# Altium footprint library Разъемы-mm.PcbLib: 96 footprints (part 4 of 6)
Each footprint in its own frame and in the unit in brackets; x right, y up, seen from the top. Pads: shape width x height; smd on the part's side, far side on the other; paste and mask are expansions set on the pad; w line width, h text height; cw(c..) or ccw(c..) is an arc to the next point about the centre after c.
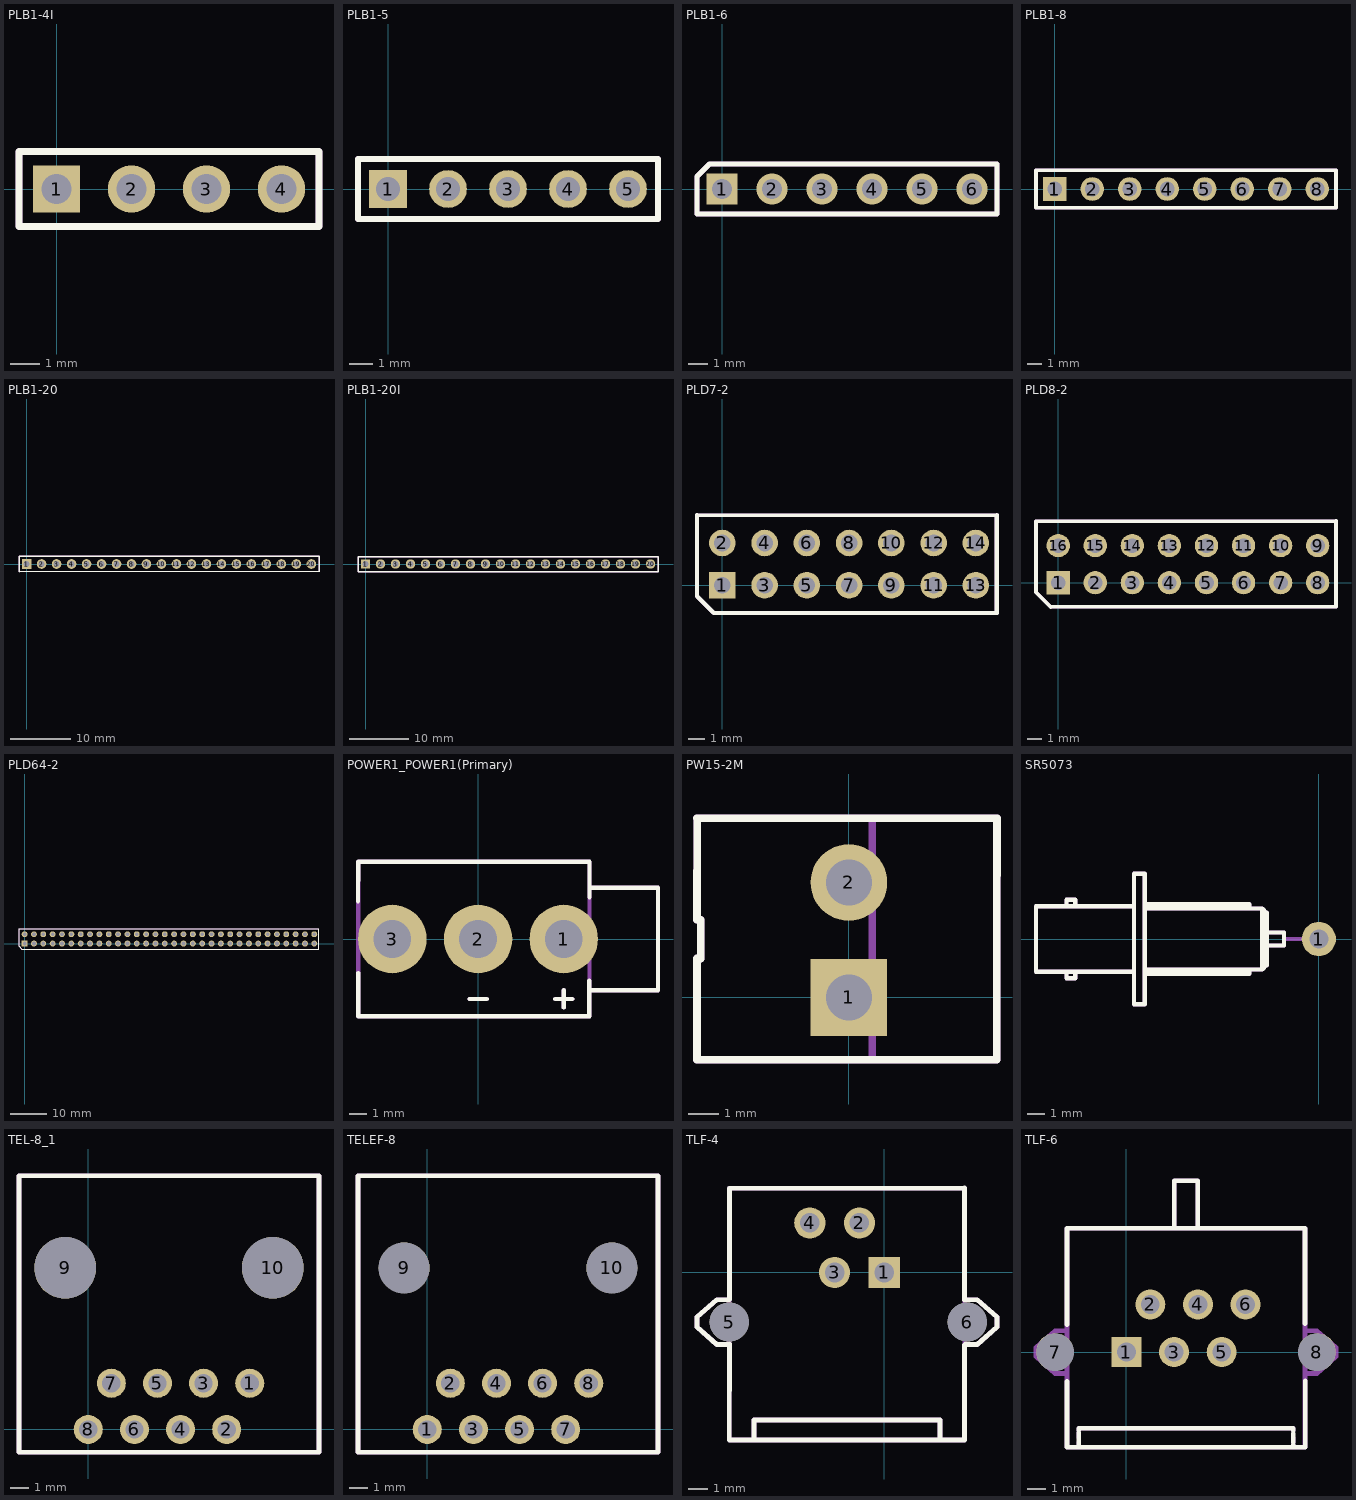
[diagram p3: the footprints below, top view; thin cyan lines are the x and y axes]

## PLB1-4I [mm]
pads (4):
  rect 1.6x1.6 hole 1: 1(0,0)
  round 1.6 hole 1: 2(2.54,0) 3(5.08,0) 4(7.62,0)
Top Overlay:
  lines w0.25: -1.27,-1.27 8.89,-1.27 8.89,1.27 -1.27,1.27 -1.27,-1.27
Mechanical 1:
  lines w0.25: -1.27,-1.27 8.89,-1.27 8.89,1.27 -1.27,1.27 -1.27,-1.27

## PLB1-5 [mm]
pads (5):
  rect 1.6x1.6 hole 1: 1(0,0)
  round 1.6 hole 1: 2(2.54,0) 3(5.08,0) 4(7.62,0) 5(10.16,0)
Top Overlay:
  lines w0.25: -1.27,-1.27 11.43,-1.27 11.43,1.27 -1.27,1.27 -1.27,-1.27
Mechanical 1:
  lines w0.25: -1.27,-1.27 11.43,-1.27 11.43,1.27 -1.27,1.27 ; -1.27,-1.27 -1.27,1.27 ; -1.27,-1.27 -1.27,1.27 ; -1.27,-1.27 -1.27,1.27

## PLB1-6 [mm]
pads (6):
  rect 1.6x1.6 hole 1: 1(0,0)
  round 1.6 hole 1: 2(2.54,0) 3(5.08,0) 4(7.62,0) 5(10.16,0) 6(12.7,0)
Top Overlay:
  lines w0.25: -1.27,-1.27 13.97,-1.27 13.97,1.27 -0.635,1.27 -1.27,0.635 -1.27,-1.27
Mechanical 1:
  lines w0.25: -1.27,-1.27 13.97,-1.27 13.97,1.27 -0.635,1.27 -1.27,0.635 -1.27,-1.27

## PLB1-8 [mm]
pads (8):
  rect 1.6x1.6 hole 1: 1(0,0)
  round 1.6 hole 1: 2(2.54,0) 3(5.08,0) 4(7.62,0) 5(10.16,0) 6(12.7,0) 7(15.24,0) 8(17.78,0)
Top Overlay:
  lines w0.25: -1.27,-1.27 19.05,-1.27 19.05,1.27 -1.27,1.27 -1.27,-1.27
Mechanical 1:
  lines w0.25: -1.27,-1.27 19.05,-1.27 19.05,1.27 -1.27,1.27 ; -1.27,-1.27 -1.27,1.27 ; -1.27,-1.27 -1.27,1.27 ; -1.27,-1.27 -1.27,1.27

## PLB1-20 [mm]
pads (20):
  rect 1.6x1.6 hole 1: 1(0,0)
  round 1.6 hole 1: 2(2.5,0) 3(5,0) 4(7.5,0) 5(10,0) 6(12.5,0) 7(15,0) 8(17.5,0) 9(20,0) 10(22.5,0) 11(25,0) 12(27.5,0) 13(30,0) 14(32.5,0) 15(35,0) 16(37.5,0) 17(40,0) 18(42.5,0) 19(45,0) 20(47.5,0)
Top Overlay:
  lines w0.25: 48.145,1.27 48.78,1.27 48.78,-1.27 ; 48.75,-1.25 -1.27,-1.27 -1.27,1.27 48.77,1.27
Mechanical 1:
  lines w0.25: 48.145,1.27 48.78,1.27 48.78,-1.27 ; 48.75,-1.25 -1.27,-1.27 -1.27,1.27 48.77,1.27

## PLB1-20I [mm]
pads (20):
  rect 1.6x1.6 hole 1: 1(0,0)
  round 1.6 hole 1: 2(2.54,0) 3(5.08,0) 4(7.62,0) 5(10.16,0) 6(12.7,0) 7(15.24,0) 8(17.78,0) 9(20.32,0) 10(22.86,0) 11(25.4,0) 12(27.94,0) 13(30.48,0) 14(33.02,0) 15(35.56,0) 16(38.1,0) 17(40.64,0) 18(43.18,0) 19(45.72,0) 20(48.26,0)
Top Overlay:
  lines w0.25: -1.27,-1.27 49.53,-1.27 49.53,1.27 48.895,1.27 -1.27,1.27 -1.27,-1.27
Mechanical 1:
  lines w0.25: -1.27,-1.27 49.53,-1.27 49.53,1.27 48.895,1.27 -1.27,1.27 -1.27,-1.27

## PLD7-2 [mm]
pads (14):
  rect 1.6x1.6 hole 1: 1(0,0)
  round 1.6 hole 1: 2(0,2.54) 3(2.54,0) 4(2.54,2.54) 5(5.08,0) 6(5.08,2.54) 7(7.62,0) 8(7.62,2.54) 9(10.16,0) 10(10.16,2.54) 11(12.7,0) 12(12.7,2.54) 13(15.24,0) 14(15.24,2.54)
Top Overlay:
  lines w0.25: 16.497,-1.662 16.497,4.221 ; 16.51,-1.651 -0.517,-1.667 -1.523,-0.661 -1.523,4.216 16.51,4.191
Mechanical 1:
  lines w0.25: 16.497,-1.662 16.497,4.221 ; 16.51,-1.651 -0.517,-1.667 -1.523,-0.661 -1.523,4.216 16.51,4.191
  text "2" at -1.485,1.567 h0.79
  text "1" at -1.566,-0.803 h0.79

## PLD8-2 [mm]
pads (16):
  rect 1.6x1.6 hole 1: 1(0,0)
  round 1.6 hole 1: 2(2.54,0) 3(5.08,0) 4(7.62,0) 5(10.16,0) 6(12.7,0) 7(15.24,0) 8(17.78,0) 9(17.78,2.54) 10(15.24,2.54) 11(12.7,2.54) 12(10.16,2.54) 13(7.62,2.54) 14(5.08,2.54) 15(2.54,2.54) 16(0,2.54)
Top Overlay:
  lines w0.25: 19.03,-1.66 -0.517,-1.667 -1.523,-0.661 -1.523,4.216 19.03,4.22 ; 19.037,-1.662 19.037,4.221
Mechanical 1:
  lines w0.25: 19.03,-1.66 -0.517,-1.667 -1.523,-0.661 -1.523,4.216 19.03,4.22 ; 19.037,-1.662 19.037,4.221
  text "16" at -1.812,1.694 h0.79
  text "1" at -1.566,-0.803 h0.79

## PLD64-2 [mm]
pads (64):
  rect 1.6x1.6 hole 1: 1(0,0)
  round 1.6 hole 1: 2(0,2.54) 3(2.54,0) 4(2.54,2.54) 5(5.08,0) 6(5.08,2.54) 7(7.62,0) 8(7.62,2.54) 9(10.16,0) 10(10.16,2.54) 11(12.7,0) 12(12.7,2.54) 13(15.24,0) 14(15.24,2.54) 15(17.78,0) 16(17.78,2.54) 17(20.32,0) 18(20.32,2.54) 19(22.86,0) 20(22.86,2.54) 21(25.4,0) 22(25.4,2.54) 23(27.94,0) 24(27.94,2.54) 25(30.48,0) 26(30.48,2.54) 27(33.02,0) 28(33.02,2.54) 29(35.56,0) 30(35.56,2.54) 31(38.1,0) 32(38.1,2.54) 33(40.64,0) 34(40.64,2.54) 35(43.18,0) 36(43.18,2.54) 37(45.72,0) 38(45.72,2.54) 39(48.26,0) 40(48.26,2.54) 41(50.8,0) 42(50.8,2.54) 43(53.34,0) 44(53.34,2.54) 45(55.88,0) 46(55.88,2.54) 47(58.42,0) 48(58.42,2.54) 49(60.96,0) 50(60.96,2.54) 51(63.5,0) 52(63.5,2.54) 53(66.04,0) 54(66.04,2.54) 55(68.58,0) 56(68.58,2.54) 57(71.12,0) 58(71.12,2.54) 59(73.66,0) 60(73.66,2.54) 61(76.2,0) 62(76.2,2.54) 63(78.74,0) 64(78.74,2.54)
Top Overlay:
  lines w0.25: 79.959,-1.575 -0.711,-1.524 -1.524,-0.711 -1.524,4.064 80.01,4.064 ; 79.985,-1.524 79.985,4.064
Mechanical 1:
  lines w0.25: 79.959,-1.575 -0.711,-1.524 -1.524,-0.711 -1.524,4.064 80.01,4.064 ; 79.985,-1.524 79.985,4.064
  text "2" at -1.612,1.694 h0.79
  text "1" at -1.612,-0.846 h0.79

## POWER1_POWER1(Primary) [mm]
pads (3):
  round 4 hole 2.2: 1(5,0) 2(0,0) 3(-5,0)
Top Overlay:
  lines w0.254: -7.005,2.193 -7,4.5 6.5,4.5 6.5,2.443 ; -6.991,-1.985 -7,-4.5 6.5,-4.5 ; -0.5,-3.5 0.5,-3.5 ; 4.5,-3.5 5.5,-3.5 ; 5,-4 5,-3 ; 6.486,-4.484 6.486,-2.427 ; 6.5,-3 10.5,-3 10.5,3 10,3 6.5,3
Mechanical 1:
  lines w0.254: -0.5,-3.5 0.5,-3.5 ; 4.5,-3.5 5.5,-3.5 ; 5,-4 5,-3 ; 6.5,-3 10.5,-3 10.5,3 10,3 6.5,3 ; -7,-4.5 6.5,-4.5 6.5,4.5 -7,4.5 -7,3 -7,-3.5 -7,-4.5

## PW15-2M [mm]
pads (2):
  rect 2.5x2.5 hole 1.5: 1(0,0)
  round 2.5 hole 1.5: 2(0,3.75)
Top Overlay:
  lines w0.25: -4.953,5.846 4.826,5.846 ; -4.95,5.83 -4.953,2.54 -4.826,2.54 -4.826,1.27 -4.953,1.27 -4.953,-2.032 4.826,-2.032 4.826,2.032 4.83,5.84
Mechanical 1:
  lines w0.25: -4.953,5.846 4.826,5.846 ; -4.95,5.83 -4.953,2.54 -4.826,2.54 -4.826,1.27 -4.953,1.27 -4.953,-2.032 4.826,-2.032 4.826,2.032 4.83,5.84 ; 0.76,5.83 0.762,-2.032 ; -0.254,-0.254 0.254,0.254 ; -0.254,-0.254 0.254,-0.254 ; -0.254,-0.254 -0.254,0.254 ; -0.254,0.254 0.254,-0.254 ; -0.254,0.254 0.254,0.254 ; -0.254,3.56 0.254,4.068 ; -0.254,3.56 0.254,3.56 ; -0.254,3.56 -0.254,4.068 ; -0.254,4.068 0.254,3.56 ; -0.254,4.068 0.254,4.068 ; 0.254,-0.254 0.254,0.254 ; 0.254,3.56 0.254,4.068

## SR5073 [mm]
pads (1):
  round 2 hole 1.1: 1(0,0)
Top Overlay:
  lines w0.25: -10.795,-1.905 -16.51,-1.905 -16.51,1.905 -10.795,1.905 ; -10.16,-2.032 -4.064,-2.032 -4.064,-1.905 ; -10.16,-1.778 -3.302,-1.778 ; -10.16,1.778 -3.302,1.778 ; -10.16,2.032 -4.064,2.032 -4.064,1.905 ; -3.048,-0.381 -2.032,-0.381 -2.032,0.381 -3.048,0.381 ; -3.302,-1.778 -3.302,1.778 ; -3.302,-1.778 -3.048,-1.524 -3.048,1.524 -3.302,1.778 ; -14.732,-2.286 -14.732,-1.905 -14.224,-1.905 -14.224,-2.286 -14.732,-2.286 ; -14.732,1.905 -14.732,2.286 -14.224,2.286 -14.224,1.905 -14.732,1.905 ; -10.795,-3.81 -10.795,3.81 -10.16,3.81 -10.16,-3.81 -10.795,-3.81
Mechanical 1:
  lines w0.25: -10.795,-1.905 -16.51,-1.905 -16.51,1.905 -10.795,1.905 ; -10.16,-2.032 -4.064,-2.032 -4.064,-1.905 ; -10.16,-1.778 -3.302,-1.778 ; -10.16,1.778 -3.302,1.778 ; -10.16,2.032 -4.064,2.032 -4.064,1.905 ; -3.048,-0.381 -2.032,-0.381 -2.032,0.381 -3.048,0.381 ; -2.032,0 0,0 ; -3.302,-1.778 -3.302,1.778 ; -3.302,-1.778 -3.048,-1.524 -3.048,1.524 -3.302,1.778 ; -14.732,-2.286 -14.732,-1.905 -14.224,-1.905 -14.224,-2.286 -14.732,-2.286 ; -14.732,1.905 -14.732,2.286 -14.224,2.286 -14.224,1.905 -14.732,1.905 ; -10.795,-3.81 -10.795,3.81 -10.16,3.81 -10.16,-3.81 -10.795,-3.81

## TEL-8_1 [mm]
pads (10):
  round 1.6 hole 1: 1(8.89,2.54) 2(7.62,0) 3(6.35,2.54) 4(5.08,0) 5(3.81,2.54) 6(2.54,0) 7(1.27,2.54) 8(0,0)
  round 3.4 hole 3.4: 9(-1.27,8.89) 10(10.16,8.89)
Top Overlay:
  lines w0.25: -3.81,-1.27 12.7,-1.27 12.7,13.97 -3.81,13.97 -3.81,-1.27
Mechanical 1:
  lines w0.25: -3.81,-1.27 12.7,-1.27 12.7,13.97 -3.81,13.97 -3.81,-1.27

## TELEF-8 [mm]
pads (10):
  round 1.6 hole 1: 1(0,0) 2(1.27,2.54) 3(2.54,0) 4(3.81,2.54) 5(5.08,0) 6(6.35,2.54) 7(7.62,0) 8(8.89,2.54)
  round 2.8 hole 2.8: 9(-1.27,8.89) 10(10.16,8.89)
Top Overlay:
  lines w0.25: -3.81,-1.27 12.7,-1.27 12.7,13.97 -3.81,13.97 -3.81,-1.27
Mechanical 1:
  lines w0.25: -3.81,-1.27 12.7,-1.27 12.7,13.97 -3.81,13.97 -3.81,-1.27

## TLF-4 [mm]
pads (6):
  rect 1.6x1.6 hole 1: 1(0,0)
  round 1.6 hole 1: 2(-1.27,2.54) 3(-2.54,0) 4(-3.81,2.54)
  round 2 hole 2: 5(-7.938,-2.54) 6(4.255,-2.54)
Top Overlay:
  lines w0.25: -7.938,-8.572 4.127,-8.572 ; -7.938,-8.509 -7.921,-3.67 ; -7.938,-3.683 -8.572,-3.683 -9.588,-2.794 -9.588,-2.286 -8.572,-1.397 -8.319,-1.397 -7.938,-1.397 ; -7.938,4.318 4.127,4.318 ; -7.921,-1.377 -7.921,4.303 ; -6.667,-8.572 -6.667,-7.556 2.857,-7.556 2.857,-8.572 ; 4.105,-8.536 4.105,-3.703 ; 4.105,-1.411 4.105,4.32 ; 4.127,-3.683 4.763,-3.683 5.779,-2.794 5.779,-2.286 4.763,-1.397 4.508,-1.397 4.127,-1.397
Mechanical 1:
  lines w0.25: -7.938,-8.572 4.127,-8.572 ; -7.938,-8.509 -7.938,4.318 4.127,4.318 4.127,-8.509 ; -7.938,-3.683 -8.572,-3.683 -9.588,-2.794 -9.588,-2.286 -8.572,-1.397 -8.319,-1.397 -7.938,-1.397 ; -6.667,-8.572 -6.667,-7.556 2.857,-7.556 2.857,-8.572 ; 4.127,-3.683 4.763,-3.683 5.779,-2.794 5.779,-2.286 4.763,-1.397 4.508,-1.397 4.127,-1.397

## TLF-6 [mm]
pads (8):
  rect 1.6x1.6 hole 1: 1(0,0)
  round 1.6 hole 1: 2(1.27,2.54) 3(2.54,0) 4(3.81,2.54) 5(5.08,0) 6(6.35,2.54)
  round 2 hole 2: 7(-3.81,0) 8(10.16,0)
Top Overlay:
  lines w0.25: -3.175,-1.556 -3.175,-5.08 7.62,-5.08 9.525,-5.08 ; -3.175,1.467 -3.175,6.565 ; -3.175,6.604 9.525,6.604 ; -2.551,-4.8 -2.551,-4.618 ; -2.54,-5.08 -2.54,-4.826 ; -2.54,-4.572 -2.54,-4.318 ; -2.54,-4.191 -2.54,-4.064 8.89,-4.064 8.89,-4.191 ; 2.54,6.604 2.54,9.144 3.81,9.144 3.81,6.604 ; 8.89,-5.08 8.89,-4.953 ; 8.89,-4.826 8.89,-4.572 ; 8.895,-4.618 8.895,-4.336 ; 9.519,1.507 9.519,6.585 ; 9.539,-5.082 9.539,-1.535
Mechanical 1:
  lines w0.25: -3.175,-1.143 -3.81,-1.143 -4.826,-0.254 -4.826,0.254 -3.81,1.143 -3.556,1.143 -3.175,1.143 ; -2.54,-5.08 -2.54,-4.826 ; -2.54,-4.572 -2.54,-4.318 ; -2.54,-4.191 -2.54,-4.064 8.89,-4.064 8.89,-4.191 ; 2.54,6.604 2.54,9.144 3.81,9.144 3.81,6.604 ; 8.89,-5.08 8.89,-4.953 ; 8.89,-4.826 8.89,-4.572 ; 9.525,-1.143 10.16,-1.143 11.176,-0.254 11.176,0.254 10.16,1.143 9.906,1.143 9.525,1.143 ; -3.175,-5.08 7.62,-5.08 9.525,-5.08 9.525,6.604 -3.175,6.604 -3.175,-5.08